# Altium integrated library LM321.IntLib: 1 symbol
Pins are listed as number, name and electrical type; pins without a type are passive.

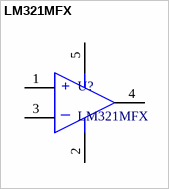
[diagram p0: symbol LM321MFX]

## LM321MFX
designator U?
Supplier 1: Farnell; Supplier Part Number 1: LM321MF/NOPB; Supplier 2: Digi-Key; Supplier Part Number 2: LM321MFX/NOPBTR-ND; Supplier 3: Mouser; Supplier Part Number 3: 926-LM321MFX/NOPB
footprint SOT95P245X110-5N (SOT23, 5-Leads, Body 2,90x2,45mm, Pitch 0,95mm, IPC Medium Density)
footprint SOT95P245X110-5N (SOT23, 5-Leads, Body 2,90x2,45mm, Pitch 0,95mm, IPC Medium Density)
footprint SOT95P245X110-5N (SOT23, 5-Leads, Body 2,90x2,45mm, Pitch 0,95mm, IPC Medium Density)
pins: 1 +IN, 2 V-, 3 -IN, 4 OUT, 5 V+
text: +; _